# EAGLE library part MULTIPLEXERS (library FaBo-Multiplexers)
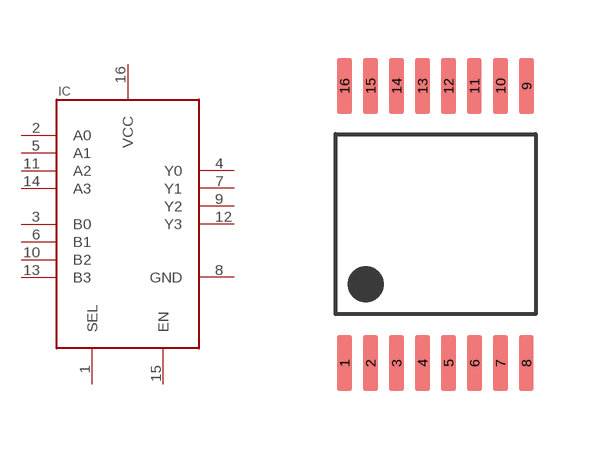
[diagram p0: symbol with the pads of TSSOP-16; footprint TSSOP-16]

Designator prefix IC

## MULTIPLEXERSMC74HC157A  [TSSOP-16]
1  SEL
2  A0
3  B0
4  Y0
5  A1
6  B1
7  Y1
8  GND
9  Y2
10  B2
11  A2
12  Y3
13  B3
14  A3
15  EN
16  VCC

## Footprint TSSOP-16 (pad centres in mm)
smd 0.36 x 1.397: 1 -2.275,-3.469; 2 -1.625,-3.469; 3 -0.975,-3.469; 4 -0.325,-3.469; 5 0.325,-3.469; 6 0.975,-3.469; 7 1.625,-3.469; 8 2.271,-3.469; 9 2.275,3.458; 10 1.625,3.458; 11 0.971,3.458; 12 0.325,3.458; 13 -0.325,3.458; 14 -0.975,3.458; 15 -1.625,3.458; 16 -2.275,3.458